# Altium schematic symbol library 875105444003.SchLib: 1 symbol
Pins are listed as number, name and electrical type; pins without a type are passive.

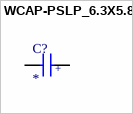
[diagram p0: symbol WCAP-PSLP_6.3X5.8]

## WCAP-PSLP_6.3X5.8
designator C?
MF: {'manufacturer': u'W\xfcrth Elektronik'}; MP: 875105444003; Package: None; Price: None; Value: *; Availability: Unavailable
footprint WCAP-PSLP_6.3X5.8(DXL)
pins: 1 POS, 2 NEG
text: +